# EAGLE library part FXAS21000 (library Kas-Sensors)
FXAS21000 Gyroscope FXAS21000: Xtrinsic 3-Axis Digital Gyroscope
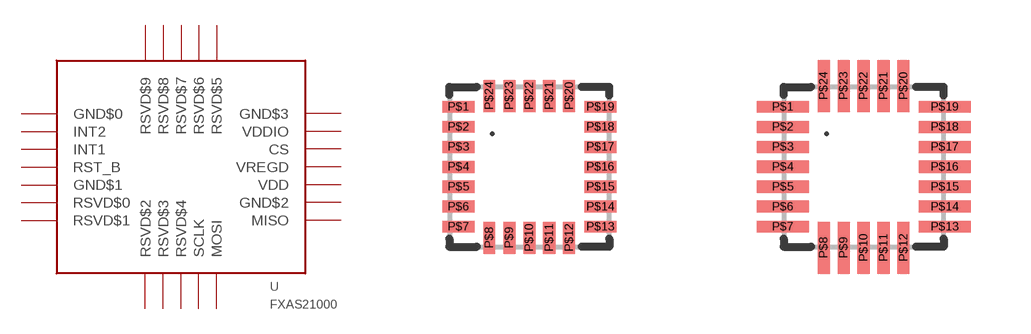
[diagram p5: symbol with the pads of QFN-24(4X4); footprints QFN-24(4X4), QFN-24(4X4)_HS]

Designator prefix U

## FXAS21000  [QFN-24(4X4)]
P$1  GND$0
P$2  INT2
P$3  INT1
P$4  RST_B
P$5  GND$1
P$6  RSVD$0
P$7  RSVD$1
P$8  RSVD$2
P$9  RSVD$3
P$10  RSVD$4
P$11  SCLK
P$12  MOSI
P$13  MISO
P$14  GND$2
P$15  VDD
P$16  VREGD
P$17  CS
P$18  VDDIO
P$19  GND$3
P$20  RSVD$5
P$21  RSVD$6
P$22  RSVD$7
P$23  RSVD$8
P$24  RSVD$9

## FXAS21000_HS  [QFN-24(4X4)_HS]
Pads as for QFN-24(4X4)

## Footprint QFN-24(4X4) (pad centres in mm)
smd 0.8 x 0.3: P$1 -1.775,1.5; P$2 -1.775,1; P$3 -1.775,0.5; P$4 -1.775,0; P$5 -1.775,-0.5; P$6 -1.775,-1; P$7 -1.775,-1.5; P$13 1.775,-1.5; P$14 1.775,-1; P$15 1.775,-0.5; P$16 1.775,0; P$17 1.775,0.5; P$18 1.775,1; P$19 1.775,1.5
smd 0.3 x 0.8: P$8 -1,-1.775; P$9 -0.5,-1.775; P$10 0,-1.775; P$11 0.5,-1.775; P$12 1,-1.775; P$20 1,1.775; P$21 0.5,1.775; P$22 0,1.775; P$23 -0.5,1.775; P$24 -1,1.775

## Footprint QFN-24(4X4)_HS (pad centres in mm)
smd 1.3 x 0.3: P$1 -2.025,1.5; P$2 -2.025,1; P$3 -2.025,0.5; P$4 -2.025,0; P$5 -2.025,-0.5; P$6 -2.025,-1; P$7 -2.025,-1.5; P$13 2.025,-1.5; P$14 2.025,-1; P$15 2.025,-0.5; P$16 2.025,0; P$17 2.025,0.5; P$18 2.025,1; P$19 2.025,1.5
smd 0.3 x 1.3: P$8 -1,-2.025; P$9 -0.5,-2.025; P$10 0,-2.025; P$11 0.5,-2.025; P$12 1,-2.025; P$20 1,2.025; P$21 0.5,2.025; P$22 0,2.025; P$23 -0.5,2.025; P$24 -1,2.025